# Altium integrated library IL_Bogdanov.IntLib: 4 symbols
Pins are listed as number, name and electrical type; pins without a type are passive.

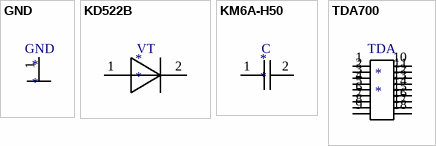
[diagram p0: symbols GND to TDA700]

## GND
designator *
pins: 1

## KD522B
designator *
pins: 1, 2
text: VT

## KM6A-H50
designator *
pins: 1, 2
text: C

## TDA700
designator *
pins: 1, 2, 3, 4, 5, 6, 7, 8, 9, 10, 11, 12, 13, 14, 15, 16, 17, 18
text: TDA